# Altium schematic symbol library Schlib_For_High_Voltage_Sensor.SchLib: 142 symbols (part 2 of 3)
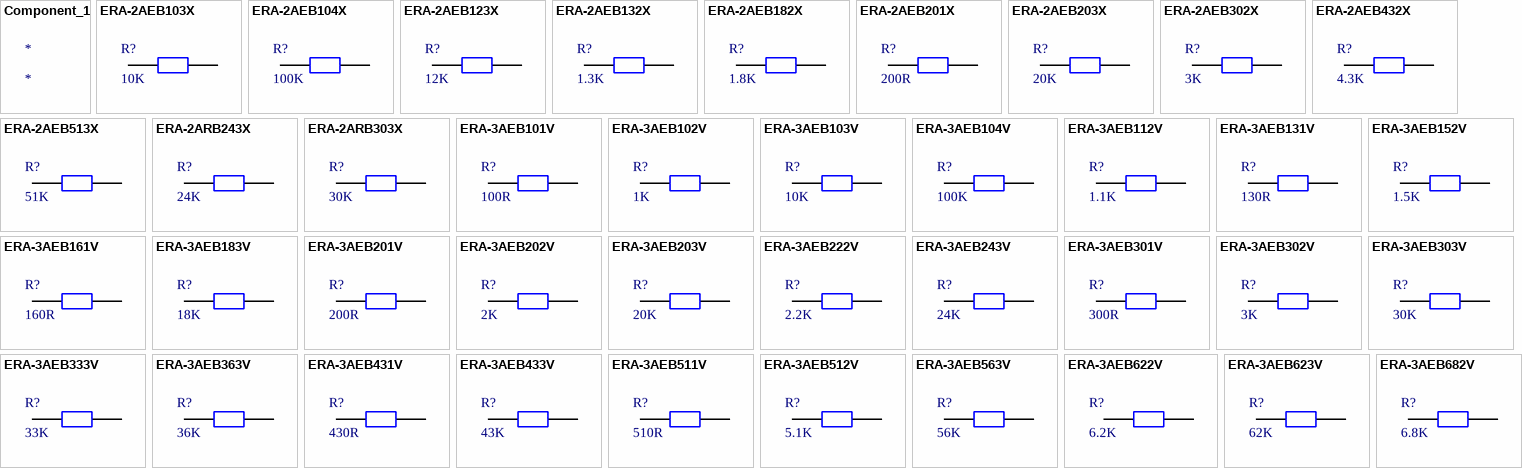
[diagram p4: symbols Component_1 to ERA-3AEB682V]

## ERA-3AEB101V
designator R?, comment 100R
RES SMD 100 OHM 0.1% 1/10W 0603; Manufacturer: Panasonic Electronic Components; Manufacturer Part Number: ERA-3AEB101V; Resistance (Ohms): 100; Power (Watts): 0.1W, 1/10W; Temperature Coefficient: ±25ppm/°C; Supplier 1: Digi-Key; RoHS: RoHS Compliant; Category: Resistors; Stock 1: 192441; Pricing 1: 1=0.54, 10=0.464, 100=0.1813, 1000=0.07591, 2500=0.06959 (CAD); Packaging: Cut Tape (CT); Part Status: Active; Tolerance: ±0.1%; Composition: Thin Film; Features: Automotive AEC-Q200; Operating Temperature: -55°C ~ 155°C; Package / Case: 0603 (1608 Metric); Supplier Device Package: 0603; Size / Dimension: 0.063" L x 0.031" W (1.60mm x 0.80mm); Height - Seated (Max): 0.022" (0.55mm); Failure Rate: -; ComponentLink1URL: https://industrial.panasonic.com/cdbs/www-data/pdf/RDM0000/AOA0000C237.pdf; ComponentLink1Description: https://industrial.panasonic.com/cdbs/www-data/pdf/RDM0000/AOA0000C237.pdf; Supplier Part Number 1: P100DBCT-ND
footprint RESC0603 (Chip Resistor 0603, 2-Leads, Body 1.60x0.82mm, IPC High Density)
pins: 1, 2

## ERA-3AEB102V
designator R?, comment 1K
RES SMD 1K OHM 0.1% 1/10W 0603; Manufacturer: Panasonic Electronic Components; Manufacturer Part Number: ERA-3AEB102V; Power (Watts): 0.1W, 1/10W; Temperature Coefficient: ±25ppm/°C; Supplier 1: Digi-Key; RoHS: RoHS Compliant; Category: Resistors; Stock 1: 102851; Pricing 1: 1=0.54, 10=0.464, 100=0.1813, 1000=0.07591, 2500=0.06959 (CAD); Packaging: Cut Tape (CT); Part Status: Active; Resistance (Ohms): 1k; Tolerance: ±0.1%; Composition: Thin Film; Features: Automotive AEC-Q200; Operating Temperature: -55°C ~ 155°C; Package / Case: 0603 (1608 Metric); Supplier Device Package: 0603; Size / Dimension: 0.063" L x 0.031" W (1.60mm x 0.80mm); Height - Seated (Max): 0.022" (0.55mm); Failure Rate: -; ComponentLink1URL: https://industrial.panasonic.com/cdbs/www-data/pdf/RDM0000/AOA0000C237.pdf; ComponentLink1Description: https://industrial.panasonic.com/cdbs/www-data/pdf/RDM0000/AOA0000C237.pdf; Supplier Part Number 1: P1.0KDBCT-ND
footprint RESC0603 (Chip Resistor 0603, 2-Leads, Body 1.60x0.82mm, IPC High Density)
pins: 1, 2

## ERA-3AEB103V
designator R?, comment 10K
RES SMD 10K OHM 0.1% 1/10W 0603; Manufacturer: Panasonic Electronic Components; Manufacturer Part Number: ERA-3AEB103V; Power (Watts): 0.1W, 1/10W; Temperature Coefficient: ±25ppm/°C; Supplier 1: Digi-Key; RoHS: RoHS Compliant; Category: Resistors; Stock 1: 1334717; Pricing 1: 1=0.53, 10=0.45, 100=0.1759, 1000=0.07362, 2500=0.06749 (CAD); Packaging: Cut Tape (CT); Part Status: Active; Resistance (Ohms): 10k; Tolerance: ±0.1%; Composition: Thin Film; Features: Automotive AEC-Q200; Operating Temperature: -55°C ~ 155°C; Package / Case: 0603 (1608 Metric); Supplier Device Package: 0603; Size / Dimension: 0.063" L x 0.031" W (1.60mm x 0.80mm); Height - Seated (Max): 0.022" (0.55mm); Failure Rate: -; ComponentLink1URL: https://industrial.panasonic.com/cdbs/www-data/pdf/RDM0000/AOA0000C237.pdf; ComponentLink1Description: https://industrial.panasonic.com/cdbs/www-data/pdf/RDM0000/AOA0000C237.pdf; Supplier Part Number 1: P10KDBCT-ND
footprint RESC0603 (Chip Resistor 0603, 2-Leads, Body 1.60x0.82mm, IPC High Density)
pins: 1, 2

## ERA-3AEB104V
designator R?, comment 100K
RES SMD 100K OHM 0.1% 1/10W 0603; Manufacturer: Panasonic Electronic Components; Manufacturer Part Number: ERA-3AEB104V; Power (Watts): 0.1W, 1/10W; Temperature Coefficient: ±25ppm/°C; Supplier 1: Digi-Key; RoHS: RoHS Compliant; Category: Resistors; Stock 1: 487813; Pricing 1: 1=0.55, 10=0.47, 100=0.1835, 1000=0.07679, 2500=0.0704 (CAD); Packaging: Cut Tape (CT); Part Status: Active; Resistance (Ohms): 100k; Tolerance: ±0.1%; Composition: Thin Film; Features: Automotive AEC-Q200; Operating Temperature: -55°C ~ 155°C; Package / Case: 0603 (1608 Metric); Supplier Device Package: 0603; Size / Dimension: 0.063" L x 0.031" W (1.60mm x 0.80mm); Height - Seated (Max): 0.022" (0.55mm); Failure Rate: -; ComponentLink1URL: https://industrial.panasonic.com/cdbs/www-data/pdf/RDM0000/AOA0000C237.pdf; ComponentLink1Description: https://industrial.panasonic.com/cdbs/www-data/pdf/RDM0000/AOA0000C237.pdf; Supplier Part Number 1: P100KDBCT-ND
footprint RESC0603 (Chip Resistor 0603, 2-Leads, Body 1.60x0.82mm, IPC High Density)
pins: 1, 2

## ERA-3AEB112V
designator R?, comment 1.1K
RES SMD 1.1K OHM 0.1% 1/10W 0603; Manufacturer: Panasonic Electronic Components; Manufacturer Part Number: ERA-3AEB112V; Power (Watts): 0.1W, 1/10W; Temperature Coefficient: ±25ppm/°C; Supplier 1: Digi-Key; RoHS: RoHS Compliant; Category: Resistors; Stock 1: 62650; Pricing 1: 1=0.54, 10=0.464, 100=0.1813, 1000=0.07591, 2500=0.06959 (CAD); Packaging: Cut Tape (CT); Part Status: Active; Resistance (Ohms): 1.1k; Tolerance: ±0.1%; Composition: Thin Film; Features: Automotive AEC-Q200; Operating Temperature: -55°C ~ 155°C; Package / Case: 0603 (1608 Metric); Supplier Device Package: 0603; Size / Dimension: 0.063" L x 0.031" W (1.60mm x 0.80mm); Height - Seated (Max): 0.022" (0.55mm); Failure Rate: -; ComponentLink1URL: https://industrial.panasonic.com/cdbs/www-data/pdf/RDM0000/AOA0000C237.pdf; ComponentLink1Description: https://industrial.panasonic.com/cdbs/www-data/pdf/RDM0000/AOA0000C237.pdf; Supplier Part Number 1: P1.1KDBCT-ND
footprint RESC0603 (Chip Resistor 0603, 2-Leads, Body 1.60x0.82mm, IPC High Density)
pins: 1, 2

## ERA-3AEB131V
designator R?, comment 130R
RES SMD 130 OHM 0.1% 1/10W 0603; Manufacturer: Panasonic Electronic Components; Manufacturer Part Number: ERA-3AEB131V; Resistance (Ohms): 130; Power (Watts): 0.1W, 1/10W; Temperature Coefficient: ±25ppm/°C; Supplier 1: Digi-Key; RoHS: RoHS Compliant; Category: Resistors; Stock 1: 4639; Pricing 1: 1=0.53, 10=0.45, 100=0.1759, 1000=0.07362, 2500=0.06749 (CAD); Packaging: Cut Tape (CT); Part Status: Active; Tolerance: ±0.1%; Composition: Thin Film; Features: Automotive AEC-Q200; Operating Temperature: -55°C ~ 155°C; Package / Case: 0603 (1608 Metric); Supplier Device Package: 0603; Size / Dimension: 0.063" L x 0.031" W (1.60mm x 0.80mm); Height - Seated (Max): 0.022" (0.55mm); Failure Rate: -; ComponentLink1URL: https://industrial.panasonic.com/cdbs/www-data/pdf/RDM0000/AOA0000C237.pdf; ComponentLink1Description: https://industrial.panasonic.com/cdbs/www-data/pdf/RDM0000/AOA0000C237.pdf; Supplier Part Number 1: P130DBCT-ND
footprint RESC0603 (Chip Resistor 0603, 2-Leads, Body 1.60x0.82mm, IPC High Density)
pins: 1, 2

## ERA-3AEB152V
designator R?, comment 1.5K
RESISTOR, 0603, 1K5, FULL REEL; Manufacturer: Panasonic ECG; Manufacturer Part Number: ERA-3AEB152V; Resistance: 1.5kR; Power Rating: 100mW; Tolerance: 0.1%; Voltage Rating: 75V; Temperature Coefficient: 25ppm/°C; Stock 1: 93998; Pricing 1: 1=0.35, 10=0.3, 100=0.1172, 1000=0.04906, 2500=0.04498 (USD); Mount: Surface Mount; Case/Package: 0603; Number of Pins: 2; Case Code (Metric): 1608; Case Code (Imperial): 0603; Contact Plating: Tin; Min Operating Temperature: -55°C; Max Operating Temperature: 155°C; Packaging: Tape and Reel; Package Quantity: 1; Composition: Thin Film; Number of Terminations: 2; Termination: SMD/SMT; Military Standard: Not; Max Power Dissipation: 100mW; Voltage Rating (DC): 75V; Length: 1.6mm; Height: 0.45mm; Width: 0.8mm; Depth: 0.8mm; Radiation Hardening: No; REACH SVHC: No SVHC; Lead Free: Lead Free; ComponentLink1URL: https://datasheet.ciiva.com/11811/0900766b80beefcc-11811712.pdf; ComponentLink1Description: https://datasheet.ciiva.com/11811/0900766b80beefcc-11811712.pdf; ComponentLink2URL: https://datasheet.ciiva.com/9117/aoa0000ce26-9117365.pdf; ComponentLink2Description: https://datasheet.ciiva.com/9117/aoa0000ce26-9117365.pdf; ComponentLink3URL: https://datasheet.ciiva.com/16760/70068849-16760629.pdf; ComponentLink3Description: https://datasheet.ciiva.com/16760/70068849-16760629.pdf; ComponentLink4URL: https://datasheet.ciiva.com/30146/54aoa0000ce26-30146117.pdf; ComponentLink4Description: https://datasheet.ciiva.com/30146/54aoa0000ce26-30146117.pdf; ComponentLink5URL: https://datasheet.ciiva.com/46422/485442-46422565.pdf; ComponentLink5Description: https://datasheet.ciiva.com/46422/485442-46422565.pdf; ComponentLink6URL: https://datasheet.ciiva.com/5734/485442-5734538.pdf; ComponentLink6Description: https://datasheet.ciiva.com/5734/485442-5734538.pdf; ComponentLink7URL: https://datasheet.ciiva.com/28513/485442-28513834.pdf; ComponentLink7Description: https://datasheet.ciiva.com/28513/485442-28513834.pdf; ComponentLink8URL: https://datasheet.ciiva.com/5734/485442-5734539.pdf; ComponentLink8Description: https://datasheet.ciiva.com/5734/485442-5734539.pdf; ComponentLink9URL: https://datasheet.ciiva.com/17214/aoa0000ce26-17214731.pdf; ComponentLink9Description: https://datasheet.ciiva.com/17214/aoa0000ce26-17214731.pdf; ComponentLink10URL: https://datasheet.ciiva.com/48530/era-eng-tds-48530507.pdf; ComponentLink10Description: https://datasheet.ciiva.com/48530/era-eng-tds-48530507.pdf; ComponentLink11URL: https://datasheet.ciiva.com/7830/485442-7830591.pdf; ComponentLink11Description: https://datasheet.ciiva.com/7830/485442-7830591.pdf; ComponentLink12URL: https://datasheet.ciiva.com/29183/450830-da-01-en-widerstand-0603-era-29183764.pdf; ComponentLink12Description: https://datasheet.ciiva.com/29183/450830-da-01-en-widerstand-0603-era-29183764.pdf; Supplier 1: Digi-Key; Supplier Part Number 1: P1.5KDBCT-ND
footprint RESC0603 (Chip Resistor 0603, 2-Leads, Body 1.60x0.82mm, IPC High Density)
pins: 1, 2

## ERA-3AEB161V
designator R?, comment 160R
RES SMD 160 OHM 0.1% 1/10W 0603; Manufacturer: Panasonic Electronic Components; Manufacturer Part Number: ERA-3AEB161V; Resistance (Ohms): 160; Power (Watts): 0.1W, 1/10W; Temperature Coefficient: ±25ppm/°C; Supplier 1: Digi-Key; RoHS: RoHS Compliant; Category: Resistors; Stock 1: 9377; Pricing 1: 1=0.53, 10=0.45, 100=0.1759, 1000=0.07362, 2500=0.06749 (CAD); Packaging: Cut Tape (CT); Part Status: Active; Tolerance: ±0.1%; Composition: Thin Film; Features: Automotive AEC-Q200; Operating Temperature: -55°C ~ 155°C; Package / Case: 0603 (1608 Metric); Supplier Device Package: 0603; Size / Dimension: 0.063" L x 0.031" W (1.60mm x 0.80mm); Height - Seated (Max): 0.022" (0.55mm); Failure Rate: -; ComponentLink1URL: https://industrial.panasonic.com/cdbs/www-data/pdf/RDM0000/AOA0000C237.pdf; ComponentLink1Description: https://industrial.panasonic.com/cdbs/www-data/pdf/RDM0000/AOA0000C237.pdf; Supplier Part Number 1: P160DBCT-ND
footprint RESC0603 (Chip Resistor 0603, 2-Leads, Body 1.60x0.82mm, IPC High Density)
pins: 1, 2

## ERA-3AEB183V
designator R?, comment 18K
RES SMD 18K OHM 0.1% 1/10W 0603; Manufacturer: Panasonic Electronic Components; Manufacturer Part Number: ERA-3AEB183V; Power (Watts): 0.1W, 1/10W; Temperature Coefficient: ±25ppm/°C; Supplier 1: Digi-Key; RoHS: RoHS Compliant; Category: Resistors; Stock 1: 47501; Pricing 1: 1=0.54, 10=0.464, 100=0.1813, 1000=0.07591, 2500=0.06959 (CAD); Packaging: Cut Tape (CT); Part Status: Active; Resistance (Ohms): 18k; Tolerance: ±0.1%; Composition: Thin Film; Features: Automotive AEC-Q200; Operating Temperature: -55°C ~ 155°C; Package / Case: 0603 (1608 Metric); Supplier Device Package: 0603; Size / Dimension: 0.063" L x 0.031" W (1.60mm x 0.80mm); Height - Seated (Max): 0.022" (0.55mm); Failure Rate: -; ComponentLink1URL: https://industrial.panasonic.com/cdbs/www-data/pdf/RDM0000/AOA0000C237.pdf; ComponentLink1Description: https://industrial.panasonic.com/cdbs/www-data/pdf/RDM0000/AOA0000C237.pdf; Supplier Part Number 1: P18KDBCT-ND
footprint RESC0603 (Chip Resistor 0603, 2-Leads, Body 1.60x0.82mm, IPC High Density)
pins: 1, 2

## ERA-3AEB201V
designator R?, comment 200R
RES SMD 200 OHM 0.1% 1/10W 0603; Manufacturer: Panasonic Electronic Components; Manufacturer Part Number: ERA-3AEB201V; Resistance (Ohms): 200; Power (Watts): 0.1W, 1/10W; Temperature Coefficient: ±25ppm/°C; Supplier 1: Digi-Key; RoHS: RoHS Compliant; Category: Resistors; Stock 1: 23588; Pricing 1: 1=0.54, 10=0.464, 100=0.1813, 1000=0.07591, 2500=0.06959 (CAD); Packaging: Cut Tape (CT); Part Status: Active; Tolerance: ±0.1%; Composition: Thin Film; Features: Automotive AEC-Q200; Operating Temperature: -55°C ~ 155°C; Package / Case: 0603 (1608 Metric); Supplier Device Package: 0603; Size / Dimension: 0.063" L x 0.031" W (1.60mm x 0.80mm); Height - Seated (Max): 0.022" (0.55mm); Failure Rate: -; ComponentLink1URL: https://industrial.panasonic.com/cdbs/www-data/pdf/RDM0000/AOA0000C237.pdf; ComponentLink1Description: https://industrial.panasonic.com/cdbs/www-data/pdf/RDM0000/AOA0000C237.pdf; Supplier Part Number 1: P200DBCT-ND
footprint RESC0603 (Chip Resistor 0603, 2-Leads, Body 1.60x0.82mm, IPC High Density)
pins: 1, 2

## ERA-3AEB202V
designator R?, comment 2K
RES SMD 2K OHM 0.1% 1/10W 0603; Manufacturer: Panasonic Electronic Components; Manufacturer Part Number: ERA-3AEB202V; Power (Watts): 0.1W, 1/10W; Temperature Coefficient: ±25ppm/°C; Supplier 1: Digi-Key; RoHS: RoHS Compliant; Category: Resistors; Stock 1: 235861; Pricing 1: 1=0.64, 10=0.47, 100=0.1835, 1000=0.07679, 2500=0.0704 (CAD); Packaging: Cut Tape (CT); Part Status: Active; Resistance (Ohms): 2k; Tolerance: ±0.1%; Composition: Thin Film; Features: Automotive AEC-Q200; Operating Temperature: -55°C ~ 155°C; Package / Case: 0603 (1608 Metric); Supplier Device Package: 0603; Size / Dimension: 0.063" L x 0.031" W (1.60mm x 0.80mm); Height - Seated (Max): 0.022" (0.55mm); Failure Rate: -; ComponentLink1URL: https://industrial.panasonic.com/cdbs/www-data/pdf/RDM0000/AOA0000C237.pdf; ComponentLink1Description: https://industrial.panasonic.com/cdbs/www-data/pdf/RDM0000/AOA0000C237.pdf; Supplier Part Number 1: P2.0KDBCT-ND
footprint RESC0603 (Chip Resistor 0603, 2-Leads, Body 1.60x0.82mm, IPC High Density)
pins: 1, 2

## ERA-3AEB203V
designator R?, comment 20K
RES SMD 20K OHM 0.1% 1/10W 0603; Manufacturer: Panasonic Electronic Components; Manufacturer Part Number: ERA-3AEB203V; Power (Watts): 0.1W, 1/10W; Temperature Coefficient: ±25ppm/°C; Supplier 1: Digi-Key; RoHS: RoHS Compliant; Category: Resistors; Stock 1: 116343; Pricing 1: 1=0.54, 10=0.464, 100=0.1813, 1000=0.07591, 2500=0.06959 (CAD); Packaging: Cut Tape (CT); Part Status: Active; Resistance (Ohms): 20k; Tolerance: ±0.1%; Composition: Thin Film; Features: Automotive AEC-Q200; Operating Temperature: -55°C ~ 155°C; Package / Case: 0603 (1608 Metric); Supplier Device Package: 0603; Size / Dimension: 0.063" L x 0.031" W (1.60mm x 0.80mm); Height - Seated (Max): 0.022" (0.55mm); Failure Rate: -; ComponentLink1URL: https://industrial.panasonic.com/cdbs/www-data/pdf/RDM0000/AOA0000C237.pdf; ComponentLink1Description: https://industrial.panasonic.com/cdbs/www-data/pdf/RDM0000/AOA0000C237.pdf; Supplier Part Number 1: P20KDBCT-ND
footprint RESC0603 (Chip Resistor 0603, 2-Leads, Body 1.60x0.82mm, IPC High Density)
pins: 1, 2

## ERA-3AEB222V
designator R?, comment 2.2K
RES SMD 2.2K OHM 0.1% 1/10W 0603; Manufacturer: Panasonic Electronic Components; Manufacturer Part Number: ERA-3AEB222V; Power (Watts): 0.1W, 1/10W; Temperature Coefficient: ±25ppm/°C; Supplier 1: Digi-Key; RoHS: RoHS Compliant; Category: Resistors; Stock 1: 3493; Pricing 1: 1=0.53, 10=0.45, 100=0.1759, 1000=0.07362, 2500=0.06749 (CAD); Packaging: Cut Tape (CT); Part Status: Active; Resistance (Ohms): 2.2k; Tolerance: ±0.1%; Composition: Thin Film; Features: Automotive AEC-Q200; Operating Temperature: -55°C ~ 155°C; Package / Case: 0603 (1608 Metric); Supplier Device Package: 0603; Size / Dimension: 0.063" L x 0.031" W (1.60mm x 0.80mm); Height - Seated (Max): 0.022" (0.55mm); Failure Rate: -; ComponentLink1URL: https://industrial.panasonic.com/cdbs/www-data/pdf/RDM0000/AOA0000C237.pdf; ComponentLink1Description: https://industrial.panasonic.com/cdbs/www-data/pdf/RDM0000/AOA0000C237.pdf; Supplier Part Number 1: P2.2KDBCT-ND
footprint RESC0603 (Chip Resistor 0603, 2-Leads, Body 1.60x0.82mm, IPC High Density)
pins: 1, 2

## ERA-3AEB243V
designator R?, comment 24K
RES SMD 24K OHM 0.1% 1/10W 0603; Manufacturer: Panasonic Electronic Components; Manufacturer Part Number: ERA-3AEB243V; Power (Watts): 0.1W, 1/10W; Temperature Coefficient: ±25ppm/°C; Supplier 1: Digi-Key; RoHS: RoHS Compliant; Category: Resistors; Stock 1: 88060; Pricing 1: 1=0.54, 10=0.464, 100=0.1813, 1000=0.07591, 2500=0.06959 (CAD); Packaging: Cut Tape (CT); Part Status: Active; Resistance (Ohms): 24k; Tolerance: ±0.1%; Composition: Thin Film; Features: Automotive AEC-Q200; Operating Temperature: -55°C ~ 155°C; Package / Case: 0603 (1608 Metric); Supplier Device Package: 0603; Size / Dimension: 0.063" L x 0.031" W (1.60mm x 0.80mm); Height - Seated (Max): 0.022" (0.55mm); Failure Rate: -; ComponentLink1URL: https://industrial.panasonic.com/cdbs/www-data/pdf/RDM0000/AOA0000C237.pdf; ComponentLink1Description: https://industrial.panasonic.com/cdbs/www-data/pdf/RDM0000/AOA0000C237.pdf; Supplier Part Number 1: P24KDBCT-ND
footprint RESC0603 (Chip Resistor 0603, 2-Leads, Body 1.60x0.82mm, IPC High Density)
pins: 1, 2

## ERA-3AEB301V
designator R?, comment 300R
RES SMD 300 OHM 0.1% 1/10W 0603; Manufacturer: Panasonic Electronic Components; Manufacturer Part Number: ERA-3AEB301V; Power (Watts): 0.1W, 1/10W; Temperature Coefficient: ±25ppm/°C; Supplier 1: Digi-Key; RoHS: RoHS Compliant; Category: Resistors; Stock 1: 32271; Pricing 1: 1=0.52, 10=0.443, 100=0.1731, 1000=0.07247, 2500=0.06644 (CAD); Packaging: Cut Tape (CT); Part Status: Active; Tolerance: ±0.1%; Composition: Thin Film; Features: Automotive AEC-Q200; Operating Temperature: -55°C ~ 155°C; Package / Case: 0603 (1608 Metric); Supplier Device Package: 0603; Size / Dimension: 0.063" L x 0.032" W (1.60mm x 0.80mm); Height - Seated (Max): 0.022" (0.55mm); Failure Rate: -; ComponentLink1URL: https://industrial.panasonic.com/cdbs/www-data/pdf/RDM0000/AOA0000C307.pdf; ComponentLink1Description: https://industrial.panasonic.com/cdbs/www-data/pdf/RDM0000/AOA0000C307.pdf; Supplier Part Number 1: P300DBCT-ND
footprint RESC0603 (Chip Resistor 0603, 2-Leads, Body 1.60x0.82mm, IPC High Density)
pins: 1, 2

## ERA-3AEB302V
designator R?, comment 3K
RES SMD 3K OHM 0.1% 1/10W 0603; Manufacturer: Panasonic Electronic Components; Manufacturer Part Number: ERA-3AEB302V; Power (Watts): 0.1W, 1/10W; Temperature Coefficient: ±25ppm/°C; Supplier 1: Digi-Key; RoHS: RoHS Compliant; Category: Resistors; Stock 1: 26061; Pricing 1: 1=0.53, 10=0.45, 100=0.1759, 1000=0.07362, 2500=0.06749 (CAD); Packaging: Cut Tape (CT); Part Status: Active; Resistance (Ohms): 3k; Tolerance: ±0.1%; Composition: Thin Film; Features: Automotive AEC-Q200; Operating Temperature: -55°C ~ 155°C; Package / Case: 0603 (1608 Metric); Supplier Device Package: 0603; Size / Dimension: 0.063" L x 0.031" W (1.60mm x 0.80mm); Height - Seated (Max): 0.022" (0.55mm); Failure Rate: -; ComponentLink1URL: https://industrial.panasonic.com/cdbs/www-data/pdf/RDM0000/AOA0000C237.pdf; ComponentLink1Description: https://industrial.panasonic.com/cdbs/www-data/pdf/RDM0000/AOA0000C237.pdf; Supplier Part Number 1: P3.0KDBCT-ND
footprint RESC0603 (Chip Resistor 0603, 2-Leads, Body 1.60x0.82mm, IPC High Density)
pins: 1, 2

## ERA-3AEB303V
designator R?, comment 30K
RES SMD 30K OHM 0.1% 1/10W 0603; Manufacturer: Panasonic Electronic Components; Manufacturer Part Number: ERA-3AEB303V; Power (Watts): 0.1W, 1/10W; Temperature Coefficient: ±25ppm/°C; Supplier 1: Digi-Key; RoHS: RoHS Compliant; Category: Resistors; Stock 1: 161107; Pricing 1: 1=0.55, 10=0.47, 100=0.1835, 1000=0.07679, 2500=0.0704 (CAD); Packaging: Cut Tape (CT); Part Status: Active; Resistance (Ohms): 30k; Tolerance: ±0.1%; Composition: Thin Film; Features: Automotive AEC-Q200; Operating Temperature: -55°C ~ 155°C; Package / Case: 0603 (1608 Metric); Supplier Device Package: 0603; Size / Dimension: 0.063" L x 0.031" W (1.60mm x 0.80mm); Height - Seated (Max): 0.022" (0.55mm); Failure Rate: -; ComponentLink1URL: https://industrial.panasonic.com/cdbs/www-data/pdf/RDM0000/AOA0000C237.pdf; ComponentLink1Description: https://industrial.panasonic.com/cdbs/www-data/pdf/RDM0000/AOA0000C237.pdf; Supplier Part Number 1: P30KDBCT-ND
footprint RESC0603 (Chip Resistor 0603, 2-Leads, Body 1.60x0.82mm, IPC High Density)
pins: 1, 2

## ERA-3AEB333V
designator R?, comment 33K
RES SMD 33K OHM 0.1% 1/10W 0603; Manufacturer: Panasonic Electronic Components; Manufacturer Part Number: ERA-3AEB333V; Power (Watts): 0.1W, 1/10W; Temperature Coefficient: ±25ppm/°C; Supplier 1: Digi-Key; RoHS: RoHS Compliant; Category: Resistors; Stock 1: 111349; Pricing 1: 1=0.55, 10=0.47, 100=0.1835, 1000=0.07679, 2500=0.0704 (CAD); Packaging: Cut Tape (CT); Part Status: Active; Resistance (Ohms): 33k; Tolerance: ±0.1%; Composition: Thin Film; Features: Automotive AEC-Q200; Operating Temperature: -55°C ~ 155°C; Package / Case: 0603 (1608 Metric); Supplier Device Package: 0603; Size / Dimension: 0.063" L x 0.031" W (1.60mm x 0.80mm); Height - Seated (Max): 0.022" (0.55mm); Failure Rate: -; ComponentLink1URL: https://industrial.panasonic.com/cdbs/www-data/pdf/RDM0000/AOA0000C237.pdf; ComponentLink1Description: https://industrial.panasonic.com/cdbs/www-data/pdf/RDM0000/AOA0000C237.pdf; Supplier Part Number 1: P33KDBCT-ND
footprint RESC0603 (Chip Resistor 0603, 2-Leads, Body 1.60x0.82mm, IPC High Density)
pins: 1, 2

## ERA-3AEB363V
designator R?, comment 36K
RES SMD 36K OHM 0.1% 1/10W 0603; Manufacturer: Panasonic Electronic Components; Manufacturer Part Number: ERA-3AEB363V; Power (Watts): 0.1W, 1/10W; Temperature Coefficient: ±25ppm/°C; Supplier 1: Digi-Key; RoHS: RoHS Compliant; Category: Resistors; Stock 1: 58485; Pricing 1: 1=0.54, 10=0.464, 100=0.1813, 1000=0.07591, 2500=0.06959 (CAD); Packaging: Cut Tape (CT); Part Status: Active; Resistance (Ohms): 36k; Tolerance: ±0.1%; Composition: Thin Film; Features: Automotive AEC-Q200; Operating Temperature: -55°C ~ 155°C; Package / Case: 0603 (1608 Metric); Supplier Device Package: 0603; Size / Dimension: 0.063" L x 0.031" W (1.60mm x 0.80mm); Height - Seated (Max): 0.022" (0.55mm); Failure Rate: -; ComponentLink1URL: https://industrial.panasonic.com/cdbs/www-data/pdf/RDM0000/AOA0000C237.pdf; ComponentLink1Description: https://industrial.panasonic.com/cdbs/www-data/pdf/RDM0000/AOA0000C237.pdf; Supplier Part Number 1: P36KDBCT-ND
footprint RESC0603 (Chip Resistor 0603, 2-Leads, Body 1.60x0.82mm, IPC High Density)
pins: 1, 2

## ERA-3AEB431V
designator R?, comment 430R
RES SMD 430 OHM 0.1% 1/10W 0603; Manufacturer: Panasonic Electronic Components; Manufacturer Part Number: ERA-3AEB431V; Resistance (Ohms): 430; Power (Watts): 0.1W, 1/10W; Temperature Coefficient: ±25ppm/°C; Supplier 1: Digi-Key; RoHS: RoHS Compliant; Category: Resistors; Stock 1: 9747; Pricing 1: 1=0.53, 10=0.45, 100=0.1759, 1000=0.07362, 2500=0.06749 (CAD); Packaging: Cut Tape (CT); Part Status: Active; Tolerance: ±0.1%; Composition: Thin Film; Features: Automotive AEC-Q200; Operating Temperature: -55°C ~ 155°C; Package / Case: 0603 (1608 Metric); Supplier Device Package: 0603; Size / Dimension: 0.063" L x 0.031" W (1.60mm x 0.80mm); Height - Seated (Max): 0.022" (0.55mm); Failure Rate: -; ComponentLink1URL: https://industrial.panasonic.com/cdbs/www-data/pdf/RDM0000/AOA0000C237.pdf; ComponentLink1Description: https://industrial.panasonic.com/cdbs/www-data/pdf/RDM0000/AOA0000C237.pdf; Supplier Part Number 1: P430DBCT-ND
footprint RESC0603 (Chip Resistor 0603, 2-Leads, Body 1.60x0.82mm, IPC High Density)
pins: 1, 2

## ERA-3AEB433V
designator R?, comment 43K
RES SMD 43K OHM 0.1% 1/10W 0603; Manufacturer: Panasonic Electronic Components; Manufacturer Part Number: ERA-3AEB433V; Power (Watts): 0.1W, 1/10W; Temperature Coefficient: ±25ppm/°C; Supplier 1: Digi-Key; RoHS: RoHS Compliant; Category: Resistors; Stock 1: 33694; Pricing 1: 1=0.64, 10=0.47, 100=0.1835, 1000=0.07679, 2500=0.0704 (CAD); Packaging: Cut Tape (CT); Part Status: Active; Resistance (Ohms): 43k; Tolerance: ±0.1%; Composition: Thin Film; Features: Automotive AEC-Q200; Operating Temperature: -55°C ~ 155°C; Package / Case: 0603 (1608 Metric); Supplier Device Package: 0603; Size / Dimension: 0.063" L x 0.031" W (1.60mm x 0.80mm); Height - Seated (Max): 0.022" (0.55mm); Failure Rate: -; ComponentLink1URL: https://industrial.panasonic.com/cdbs/www-data/pdf/RDM0000/AOA0000C237.pdf; ComponentLink1Description: https://industrial.panasonic.com/cdbs/www-data/pdf/RDM0000/AOA0000C237.pdf; Supplier Part Number 1: P43KDBCT-ND
footprint RESC0603 (Chip Resistor 0603, 2-Leads, Body 1.60x0.82mm, IPC High Density)
pins: 1, 2

## ERA-3AEB511V
designator R?, comment 510R
RES SMD 510 OHM 0.1% 1/10W 0603; Manufacturer: Panasonic Electronic Components; Manufacturer Part Number: ERA-3AEB511V; Resistance (Ohms): 510; Power (Watts): 0.1W, 1/10W; Temperature Coefficient: ±25ppm/°C; Supplier 1: Digi-Key; RoHS: RoHS Compliant; Category: Resistors; Stock 1: 21170; Pricing 1: 1=0.64, 10=0.47, 100=0.1835, 1000=0.07679, 2500=0.0704 (CAD); Packaging: Cut Tape (CT); Part Status: Active; Tolerance: ±0.1%; Composition: Thin Film; Features: Automotive AEC-Q200; Operating Temperature: -55°C ~ 155°C; Package / Case: 0603 (1608 Metric); Supplier Device Package: 0603; Size / Dimension: 0.063" L x 0.031" W (1.60mm x 0.80mm); Height - Seated (Max): 0.022" (0.55mm); Failure Rate: -; ComponentLink1URL: https://industrial.panasonic.com/cdbs/www-data/pdf/RDM0000/AOA0000C237.pdf; ComponentLink1Description: https://industrial.panasonic.com/cdbs/www-data/pdf/RDM0000/AOA0000C237.pdf; Supplier Part Number 1: P510DBCT-ND
footprint RESC0603 (Chip Resistor 0603, 2-Leads, Body 1.60x0.82mm, IPC High Density)
pins: 1, 2

## ERA-3AEB512V
designator R?, comment 5.1K
RES SMD 5.1K OHM 0.1% 1/10W 0603; Manufacturer: Panasonic Electronic Components; Manufacturer Part Number: ERA-3AEB512V; Power (Watts): 0.1W, 1/10W; Temperature Coefficient: ±25ppm/°C; Supplier 1: Digi-Key; RoHS: RoHS Compliant; Category: Resistors; Stock 1: 128401; Pricing 1: 1=0.53, 10=0.45, 100=0.1759, 1000=0.07362, 2500=0.06749 (CAD); Packaging: Cut Tape (CT); Part Status: Active; Resistance (Ohms): 5.1k; Tolerance: ±0.1%; Composition: Thin Film; Features: Automotive AEC-Q200; Operating Temperature: -55°C ~ 155°C; Package / Case: 0603 (1608 Metric); Supplier Device Package: 0603; Size / Dimension: 0.063" L x 0.031" W (1.60mm x 0.80mm); Height - Seated (Max): 0.022" (0.55mm); Failure Rate: -; ComponentLink1URL: https://industrial.panasonic.com/cdbs/www-data/pdf/RDM0000/AOA0000C237.pdf; ComponentLink1Description: https://industrial.panasonic.com/cdbs/www-data/pdf/RDM0000/AOA0000C237.pdf; Supplier Part Number 1: P5.1KDBCT-ND
footprint RESC0603 (Chip Resistor 0603, 2-Leads, Body 1.60x0.82mm, IPC High Density)
pins: 1, 2

## ERA-3AEB563V
designator R?, comment 56K
RES SMD 56K OHM 0.1% 1/10W 0603; Manufacturer: Panasonic Electronic Components; Manufacturer Part Number: ERA-3AEB563V; Power (Watts): 0.1W, 1/10W; Temperature Coefficient: ±25ppm/°C; Supplier 1: Digi-Key; RoHS: RoHS Compliant; Category: Resistors; Stock 1: 23439; Pricing 1: 1=0.54, 10=0.464, 100=0.1813, 1000=0.07591, 2500=0.06959 (CAD); Packaging: Cut Tape (CT); Part Status: Active; Resistance (Ohms): 56k; Tolerance: ±0.1%; Composition: Thin Film; Features: Automotive AEC-Q200; Operating Temperature: -55°C ~ 155°C; Package / Case: 0603 (1608 Metric); Supplier Device Package: 0603; Size / Dimension: 0.063" L x 0.031" W (1.60mm x 0.80mm); Height - Seated (Max): 0.022" (0.55mm); Failure Rate: -; ComponentLink1URL: https://industrial.panasonic.com/cdbs/www-data/pdf/RDM0000/AOA0000C237.pdf; ComponentLink1Description: https://industrial.panasonic.com/cdbs/www-data/pdf/RDM0000/AOA0000C237.pdf; Supplier Part Number 1: P56KDBCT-ND
footprint RESC0603 (Chip Resistor 0603, 2-Leads, Body 1.60x0.82mm, IPC High Density)
pins: 1, 2

## ERA-3AEB622V
designator R?, comment 6.2K
Res Thin Film 0603 6.2K Ohm 0.1% 0.1W(1/10W) ±25ppm/C Molded SMD Automotive Punched T/R; Manufacturer 1: Panasonic; Manufacturer Part Number 1: ERA-3AEB622V; Resistance: 6.2kR; Power Rating: 100mW; Voltage Rating: 75V; Temperature Coefficient: 25ppm/°C; Supplier 1: Digi-Key; Supplier Part Number 1: P6.2KDBCT-ND; Description 1: Res Thin Film 0603 6.2K Ohm 0.1% 0.1W(1/10W) ±25ppm/C Molded SMD Automotive Punched T/R; Stock 1: 75807; Pricing 1: 1=0.35, 10=0.3, 100=0.1172, 1000=0.04906, 2500=0.04498 (USD); Mount: Surface Mount; Case/Package: 0603; Number of Pins: 2; Case Code (Metric): 1608; Case Code (Imperial): 0603; Contact Plating: Tin; Min Operating Temperature: -55°C; Max Operating Temperature: 155°C; Packaging: Tape and Reel; Tolerance: 0.1%; Package Quantity: 1; Composition: Thin Film; Termination: SMD/SMT; Number of Terminations: 2; Military Standard: Not; Max Power Dissipation: 100mW; Voltage Rating (DC): 75V; Length: 1.6mm; Height: 0.45mm; Width: 0.8mm; Depth: 0.8mm; Radiation Hardening: No; REACH SVHC: No SVHC; Lead Free: Lead Free; ComponentLink1URL: https://datasheet.ciiva.com/17212/aoa0000ce26-17212717.pdf; ComponentLink1Description: https://datasheet.ciiva.com/17212/aoa0000ce26-17212717.pdf; ComponentLink2URL: https://datasheet.ciiva.com/48425/era-eng-tds-48425482.pdf; ComponentLink2Description: https://datasheet.ciiva.com/48425/era-eng-tds-48425482.pdf; ComponentLink3URL: https://datasheet.ciiva.com/9117/aoa0000ce26-9117737.pdf; ComponentLink3Description: https://datasheet.ciiva.com/9117/aoa0000ce26-9117737.pdf; ComponentLink4URL: https://datasheet.ciiva.com/7891/485442-7891151.pdf; ComponentLink4Description: https://datasheet.ciiva.com/7891/485442-7891151.pdf; ComponentLink5URL: https://datasheet.ciiva.com/5875/485442-5875461.pdf; ComponentLink5Description: https://datasheet.ciiva.com/5875/485442-5875461.pdf; ComponentLink6URL: https://datasheet.ciiva.com/30050/54aoa0000ce26-30050831.pdf; ComponentLink6Description: https://datasheet.ciiva.com/30050/54aoa0000ce26-30050831.pdf; ComponentLink7URL: https://datasheet.ciiva.com/46441/485442-46441370.pdf; ComponentLink7Description: https://datasheet.ciiva.com/46441/485442-46441370.pdf; ComponentLink8URL: https://datasheet.ciiva.com/46441/485442-46441371.pdf; ComponentLink8Description: https://datasheet.ciiva.com/46441/485442-46441371.pdf; ComponentLink9URL: https://datasheet.ciiva.com/9195/aoa0000ce26-9195174.pdf; ComponentLink9Description: https://datasheet.ciiva.com/9195/aoa0000ce26-9195174.pdf; ComponentLink10URL: https://datasheet.ciiva.com/48530/era-eng-tds-48530456.pdf; ComponentLink10Description: https://datasheet.ciiva.com/48530/era-eng-tds-48530456.pdf; ComponentLink11URL: https://datasheet.ciiva.com/24069/aoa0000ce26-197354-24069095.pdf; ComponentLink11Description: https://datasheet.ciiva.com/24069/aoa0000ce26-197354-24069095.pdf; ComponentLink12URL: https://datasheet.ciiva.com/29183/451173-da-01-en-widerstand-0603-era-29183796.pdf; ComponentLink12Description: https://datasheet.ciiva.com/29183/451173-da-01-en-widerstand-0603-era-29183796.pdf
footprint RESC0603 (Chip Resistor 0603, 2-Leads, Body 1.60x0.82mm, IPC High Density)
pins: 1, 2

## ERA-3AEB623V
designator R?, comment 62K
Res Thin Film 0603 62K Ohm 0.1% 0.1W(1/10W) ±25ppm/C Molded SMD Automotive Punched T/R; Manufacturer: Panasonic ECG; Manufacturer Part Number: ERA-3AEB623V; Power Rating: 100mW; Voltage Rating: 75V; Resistance: 62KR; Temperature Coefficient: 25ppm/°C; Supplier 1: Digi-Key; Stock 1: 23662; Pricing 1: 1=0.35, 10=0.3, 100=0.1172, 1000=0.0491, 2500=0.045 (USD); Mount: Surface Mount; Case/Package: 0603; Number of Pins: 2; Case Code (Metric): 1608; Case Code (Imperial): 0603; Contact Plating: Tin; Min Operating Temperature: -55°C; Max Operating Temperature: 155°C; Tolerance: 0.1%; Packaging: Cut Tape; Package Quantity: 5000; Composition: Thin Film; Number of Terminations: 2; Termination: SMD/SMT; Military Standard: Not; Max Power Dissipation: 100mW; Voltage Rating (DC): 75V; Length: 1.6mm; Height: 0.45mm; Width: 0.8mm; Depth: 0.8mm; Radiation Hardening: No; REACH SVHC: No SVHC; Lead Free: Lead Free; ComponentLink1URL: https://datasheet.ciiva.com/5875/485442-5875463.pdf; ComponentLink1Description: https://datasheet.ciiva.com/5875/485442-5875463.pdf; ComponentLink2URL: https://datasheet.ciiva.com/5875/485442-5875464.pdf; ComponentLink2Description: https://datasheet.ciiva.com/5875/485442-5875464.pdf; ComponentLink3URL: https://datasheet.ciiva.com/9188/aoa0000ce26-9188376.pdf; ComponentLink3Description: https://datasheet.ciiva.com/9188/aoa0000ce26-9188376.pdf; ComponentLink4URL: https://datasheet.ciiva.com/16777/70068849-16777560.pdf; ComponentLink4Description: https://datasheet.ciiva.com/16777/70068849-16777560.pdf; ComponentLink5URL: https://datasheet.ciiva.com/46400/485442-46400488.pdf; ComponentLink5Description: https://datasheet.ciiva.com/46400/485442-46400488.pdf; ComponentLink6URL: https://datasheet.ciiva.com/46400/485442-46400489.pdf; ComponentLink6Description: https://datasheet.ciiva.com/46400/485442-46400489.pdf; ComponentLink7URL: https://datasheet.ciiva.com/22740/485442-22740938.pdf; ComponentLink7Description: https://datasheet.ciiva.com/22740/485442-22740938.pdf; ComponentLink8URL: https://datasheet.ciiva.com/48425/era-eng-tds-48425483.pdf; ComponentLink8Description: https://datasheet.ciiva.com/48425/era-eng-tds-48425483.pdf; ComponentLink9URL: https://datasheet.ciiva.com/9117/aoa0000ce26-9117740.pdf; ComponentLink9Description: https://datasheet.ciiva.com/9117/aoa0000ce26-9117740.pdf; ComponentLink10URL: https://datasheet.ciiva.com/16763/70068849-16763710.pdf; ComponentLink10Description: https://datasheet.ciiva.com/16763/70068849-16763710.pdf; ComponentLink11URL: https://datasheet.ciiva.com/29183/451575-da-01-en-widerstand-0603-era-29183855.pdf; ComponentLink11Description: https://datasheet.ciiva.com/29183/451575-da-01-en-widerstand-0603-era-29183855.pdf; Supplier Part Number 1: P62KDBDKR-ND
footprint RESC0603 (Chip Resistor 0603, 2-Leads, Body 1.60x0.82mm, IPC High Density)
pins: 1, 2

## ERA-3AEB682V
designator R?, comment 6.8K
RES SMD 6.8K OHM 0.1% 1/10W 0603; Manufacturer: Panasonic Electronic Components; Manufacturer Part Number: ERA-3AEB682V; Power (Watts): 0.1W, 1/10W; Temperature Coefficient: ±25ppm/°C; Supplier 1: Digi-Key; RoHS: RoHS Compliant; Category: Resistors; Stock 1: 33984; Pricing 1: 1=0.55, 10=0.47, 100=0.1835, 1000=0.07679, 2500=0.0704 (CAD); Packaging: Cut Tape (CT); Part Status: Active; Resistance (Ohms): 6.8k; Tolerance: ±0.1%; Composition: Thin Film; Features: Automotive AEC-Q200; Operating Temperature: -55°C ~ 155°C; Package / Case: 0603 (1608 Metric); Supplier Device Package: 0603; Size / Dimension: 0.063" L x 0.031" W (1.60mm x 0.80mm); Height - Seated (Max): 0.022" (0.55mm); Failure Rate: -; ComponentLink1URL: https://industrial.panasonic.com/cdbs/www-data/pdf/RDM0000/AOA0000C237.pdf; ComponentLink1Description: https://industrial.panasonic.com/cdbs/www-data/pdf/RDM0000/AOA0000C237.pdf; Supplier Part Number 1: P6.8KDBCT-ND
footprint RESC0603 (Chip Resistor 0603, 2-Leads, Body 1.60x0.82mm, IPC High Density)
pins: 1, 2

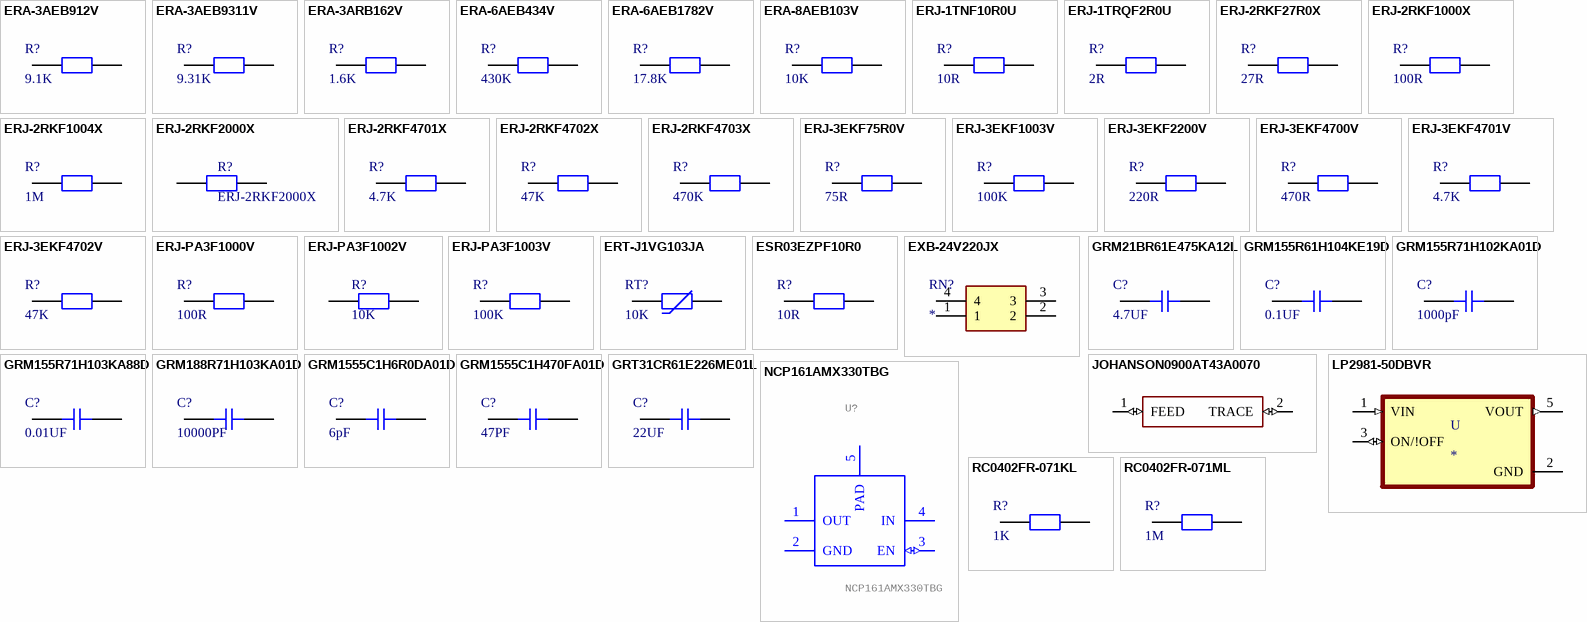
[diagram p2: symbols ERA-3AEB912V to RC0402FR-071ML]

## ERA-3AEB912V
designator R?, comment 9.1K
RES SMD 9.1K OHM 0.1% 1/10W 0603; Manufacturer: Panasonic Electronic Components; Manufacturer Part Number: ERA-3AEB912V; Power (Watts): 0.1W, 1/10W; Temperature Coefficient: ±25ppm/°C; Supplier 1: Digi-Key; RoHS: RoHS Compliant; Category: Resistors; Stock 1: 110046; Pricing 1: 1=0.54, 10=0.464, 100=0.1813, 1000=0.07591, 2500=0.06959 (CAD); Packaging: Cut Tape (CT); Part Status: Active; Resistance (Ohms): 9.1k; Tolerance: ±0.1%; Composition: Thin Film; Features: Automotive AEC-Q200; Operating Temperature: -55°C ~ 155°C; Package / Case: 0603 (1608 Metric); Supplier Device Package: 0603; Size / Dimension: 0.063" L x 0.031" W (1.60mm x 0.80mm); Height - Seated (Max): 0.022" (0.55mm); Failure Rate: -; ComponentLink1URL: https://industrial.panasonic.com/cdbs/www-data/pdf/RDM0000/AOA0000C237.pdf; ComponentLink1Description: https://industrial.panasonic.com/cdbs/www-data/pdf/RDM0000/AOA0000C237.pdf; Supplier Part Number 1: P9.1KDBCT-ND
footprint RESC0603 (Chip Resistor 0603, 2-Leads, Body 1.60x0.82mm, IPC High Density)
pins: 1, 2

## ERA-3AEB9311V
designator R?, comment 9.31K
RES SMD 9.31KOHM 0.1% 1/10W 0603; Manufacturer: Panasonic Electronic Components; Manufacturer Part Number: ERA-3AEB9311V; Power (Watts): 0.1W, 1/10W; Temperature Coefficient: ±25ppm/°C; Supplier 1: Digi-Key; RoHS: RoHS Compliant; Category: Resistors; Stock 1: 14046; Pricing 1: 1=0.54, 10=0.464, 100=0.1813, 1000=0.07591, 2500=0.06959 (CAD); Packaging: Cut Tape (CT); Part Status: Active; Resistance (Ohms): 9.31k; Tolerance: ±0.1%; Composition: Thin Film; Features: Automotive AEC-Q200; Operating Temperature: -55°C ~ 155°C; Package / Case: 0603 (1608 Metric); Supplier Device Package: 0603; Size / Dimension: 0.063" L x 0.031" W (1.60mm x 0.80mm); Height - Seated (Max): 0.022" (0.55mm); Failure Rate: -; ComponentLink1URL: https://industrial.panasonic.com/cdbs/www-data/pdf/RDM0000/AOA0000C237.pdf; ComponentLink1Description: https://industrial.panasonic.com/cdbs/www-data/pdf/RDM0000/AOA0000C237.pdf; Supplier Part Number 1: P9.31KDBCT-ND
footprint RESC0603 (Chip Resistor 0603, 2-Leads, Body 1.60x0.82mm, IPC High Density)
pins: 1, 2

## ERA-3ARB162V
designator R?, comment 1.6K
RES SMD 1.6K OHM 0.1% 1/10W 0603; Manufacturer: Panasonic Electronic Components; Manufacturer Part Number: ERA-3ARB162V; Power (Watts): 0.1W, 1/10W; Temperature Coefficient: ±10ppm/°C; Supplier 1: Digi-Key; RoHS: RoHS Compliant; Category: Resistors; Stock 1: 3292; Pricing 1: 1=0.94, 10=0.781, 100=0.5241, 1000=0.30799 (CAD); Packaging: Cut Tape (CT); Part Status: Active; Resistance (Ohms): 1.6k; Tolerance: ±0.1%; Composition: Thin Film; Features: Automotive AEC-Q200; Operating Temperature: -55°C ~ 155°C; Package / Case: 0603 (1608 Metric); Supplier Device Package: 0603; Size / Dimension: 0.063" L x 0.031" W (1.60mm x 0.80mm); Height - Seated (Max): 0.022" (0.55mm); Failure Rate: -; ComponentLink1URL: https://industrial.panasonic.com/cdbs/www-data/pdf/RDM0000/AOA0000C237.pdf; ComponentLink1Description: https://industrial.panasonic.com/cdbs/www-data/pdf/RDM0000/AOA0000C237.pdf; Supplier Part Number 1: P1.6KBDCT-ND
footprint RESC0603 (Chip Resistor 0603, 2-Leads, Body 1.60x0.82mm, IPC High Density)
pins: 1, 2

## ERA-6AEB434V
designator R?, comment 430K
RES SMD 430K OHM 0.1% 1/8W 0805; Manufacturer: Panasonic Electronic Components; Manufacturer Part Number: ERA-6AEB434V; Power (Watts): 0.125W, 1/8W; Temperature Coefficient: ±25ppm/°C; Supplier 1: Digi-Key; RoHS: RoHS Compliant; Category: Resistors; Stock 1: 10223; Pricing 1: 1=0.56, 10=0.467, 100=0.1829, 1000=0.07656, 2500=0.07018 (CAD); Packaging: Cut Tape (CT); Part Status: Active; Resistance (Ohms): 430k; Tolerance: ±0.1%; Composition: Thin Film; Features: Automotive AEC-Q200; Operating Temperature: -55°C ~ 155°C; Package / Case: 0805 (2012 Metric); Supplier Device Package: 0805; Size / Dimension: 0.079" L x 0.049" W (2.00mm x 1.25mm); Height - Seated (Max): 0.024" (0.60mm); Failure Rate: -; ComponentLink1URL: https://industrial.panasonic.com/cdbs/www-data/pdf/RDM0000/AOA0000C237.pdf; ComponentLink1Description: https://industrial.panasonic.com/cdbs/www-data/pdf/RDM0000/AOA0000C237.pdf; Supplier Part Number 1: P430KDACT-ND
footprint RESC0805 (Chip Resistor 0805, 2-Leads, Body 2.00x1.25mm, IPC High Density)
pins: 1, 2

## ERA-6AEB1782V
designator R?, comment 17.8K
RES SMD 17.8K OHM 0.1% 1/8W 0805; Manufacturer: Panasonic Electronic Components; Manufacturer Part Number: ERA-6AEB1782V; Power (Watts): 0.125W, 1/8W; Temperature Coefficient: ±25ppm/°C; Supplier 1: Digi-Key; RoHS: RoHS Compliant; Category: Resistors; Stock 1: 11507; Pricing 1: 1=0.56, 10=0.467, 100=0.1829, 1000=0.07656, 2500=0.07018 (CAD); Packaging: Cut Tape (CT); Part Status: Active; Resistance (Ohms): 17.8k; Tolerance: ±0.1%; Composition: Thin Film; Features: Automotive AEC-Q200; Operating Temperature: -55°C ~ 155°C; Package / Case: 0805 (2012 Metric); Supplier Device Package: 0805; Size / Dimension: 0.079" L x 0.049" W (2.00mm x 1.25mm); Height - Seated (Max): 0.024" (0.60mm); Failure Rate: -; ComponentLink1URL: https://industrial.panasonic.com/cdbs/www-data/pdf/RDM0000/AOA0000C237.pdf; ComponentLink1Description: https://industrial.panasonic.com/cdbs/www-data/pdf/RDM0000/AOA0000C237.pdf; Supplier Part Number 1: P17.8KDACT-ND
footprint RESC0603 (Chip Resistor 0603, 2-Leads, Body 1.60x0.82mm, IPC High Density)
pins: 1, 2

## ERA-8AEB103V
designator R?, comment 10K
RES SMD 10K OHM 0.1% 1/4W 1206; Manufacturer: Panasonic Electronic Components; Manufacturer Part Number: ERA-8AEB103V; Power (Watts): 0.25W, 1/4W; Temperature Coefficient: ±25ppm/°C; Supplier 1: Digi-Key; RoHS: RoHS Compliant; Category: Resistors; Stock 1: 60173; Pricing 1: 1=0.99, 10=0.711, 100=0.3699, 1000=0.19922, 2500=0.1965 (CAD); Packaging: Cut Tape (CT); Part Status: Active; Resistance (Ohms): 10k; Tolerance: ±0.1%; Composition: Thin Film; Features: Automotive AEC-Q200; Operating Temperature: -55°C ~ 155°C; Package / Case: 1206 (3216 Metric); Supplier Device Package: 1206; Size / Dimension: 0.126" L x 0.063" W (3.20mm x 1.60mm); Height - Seated (Max): 0.028" (0.70mm); Failure Rate: -; ComponentLink1URL: https://industrial.panasonic.com/cdbs/www-data/pdf/RDM0000/AOA0000C237.pdf; ComponentLink1Description: https://industrial.panasonic.com/cdbs/www-data/pdf/RDM0000/AOA0000C237.pdf; Supplier Part Number 1: P10KBCCT-ND
footprint RESC0603 (Chip Resistor 0603, 2-Leads, Body 1.60x0.82mm, IPC High Density)
pins: 1, 2

## ERJ-1TNF10R0U
designator R?, comment 10R
RES SMD 10 OHM 1% 1W 2512; Manufacturer: Panasonic Electronic Components; Manufacturer Part Number: ERJ-1TNF10R0U; Resistance (Ohms): 10; Temperature Coefficient: ±100ppm/°C; Supplier 1: Digi-Key; RoHS: RoHS Compliant; Category: Resistors; Stock 1: 36479; Pricing 1: 1=0.92, 10=0.653, 100=0.3394, 1000=0.18279 (CAD); Packaging: Cut Tape (CT); Part Status: Active; Tolerance: ±1%; Power (Watts): 1W; Composition: Thick Film; Features: Automotive AEC-Q200; Operating Temperature: -55°C ~ 155°C; Package / Case: 2512 (6432 Metric); Supplier Device Package: 2512; Size / Dimension: 0.252" L x 0.126" W (6.40mm x 3.20mm); Height - Seated (Max): 0.028" (0.70mm); Failure Rate: -; ComponentLink1URL: https://industrial.panasonic.com/cdbs/www-data/pdf/RDA0000/AOA0000C298.pdf; ComponentLink1Description: https://industrial.panasonic.com/cdbs/www-data/pdf/RDA0000/AOA0000C298.pdf; Supplier Part Number 1: PT10.0AFCT-ND
footprint RESC2512 (Chip Resistor 2512, 2-Leads, Body 6.30x3.20mm, IPC High Density)
pins: 1, 2

## ERJ-1TRQF2R0U
designator R?, comment 2R
RES SMD 2 OHM 1% 1W 2512; Manufacturer: Panasonic Electronic Components; Manufacturer Part Number: ERJ-1TRQF2R0U; Resistance (Ohms): 2; Temperature Coefficient: ±100ppm/°C; Supplier 1: Digi-Key; RoHS: RoHS Compliant; Category: Resistors; Stock 1: 11446; Pricing 1: 1=0.93, 10=0.767, 25=0.658, 50=0.592, 100=0.5151, 250=0.46032, 500=0.37266, 1000=0.30142 (CAD); Packaging: Cut Tape (CT); Part Status: Active; Tolerance: ±1%; Power (Watts): 1W; Composition: Thick Film; Features: Automotive AEC-Q200, Current Sense; Operating Temperature: -55°C ~ 125°C; Package / Case: 2512 (6432 Metric); Supplier Device Package: 2512; Size / Dimension: 0.252" L x 0.126" W (6.40mm x 3.20mm); Height - Seated (Max): 0.028" (0.70mm); Failure Rate: -; ComponentLink1URL: https://industrial.panasonic.com/cdbs/www-data/pdf/RDN0000/AOA0000C295.pdf; ComponentLink1Description: https://industrial.panasonic.com/cdbs/www-data/pdf/RDN0000/AOA0000C295.pdf; Supplier Part Number 1: PT2.0YCT-ND
footprint RESC2512 (Chip Resistor 2512, 2-Leads, Body 6.30x3.20mm, IPC High Density)
pins: 1, 2

## ERJ-2RKF27R0X
designator R?, comment 27R
RES SMD 27 OHM 1% 1/10W 0402; Manufacturer: Panasonic Electronic Components; Manufacturer Part Number: ERJ-2RKF27R0X; Resistance (Ohms): 27; Power (Watts): 0.1W, 1/10W; Temperature Coefficient: ±100ppm/°C; Supplier 1: Digi-Key; RoHS: RoHS Compliant; Category: Resistors; Stock 1: 542002; Pricing 1: 1=0.15, 10=0.04, 100=0.0162, 1000=0.00732, 2500=0.00635, 5000=0.00525 (CAD); Packaging: Cut Tape (CT); Part Status: Active; Tolerance: ±1%; Composition: Thick Film; Features: Automotive AEC-Q200; Operating Temperature: -55°C ~ 155°C; Package / Case: 0402 (1005 Metric); Supplier Device Package: 0402; Size / Dimension: 0.039" L x 0.020" W (1.00mm x 0.50mm); Height - Seated (Max): 0.016" (0.40mm); Failure Rate: -; ComponentLink1URL: https://industrial.panasonic.com/cdbs/www-data/pdf/RDA0000/AOA0000C298.pdf; ComponentLink1Description: https://industrial.panasonic.com/cdbs/www-data/pdf/RDA0000/AOA0000C298.pdf; Supplier Part Number 1: P27.0LCT-ND
footprint RESC0402 (Chip Resistor 0402, 2-Leads, Body 1.05x0.54mm, IPC High Density)
pins: 1, 2

## ERJ-2RKF1000X
designator R?, comment 100R
RES SMD 100 OHM 1% 1/10W 0402; Manufacturer: Panasonic Electronic Components; Manufacturer Part Number: ERJ-2RKF1000X; Power (Watts): 0.1W, 1/10W; Temperature Coefficient: ±100ppm/°C; Supplier 1: Digi-Key; RoHS: RoHS Compliant; Category: Resistors; Stock 1: 596832; Pricing 1: 1=0.14, 10=0.04, 100=0.0163, 1000=0.00733, 2500=0.00636, 5000=0.00525 (CAD); Packaging: Cut Tape (CT); Part Status: Active; Tolerance: ±1%; Composition: Thick Film; Features: Automotive AEC-Q200; Operating Temperature: -55°C ~ 155°C; Package / Case: 0402 (1005 Metric); Supplier Device Package: 0402; Size / Dimension: 0.039" L x 0.020" W (1.00mm x 0.50mm); Height - Seated (Max): 0.016" (0.40mm); Failure Rate: -; ComponentLink1URL: https://industrial.panasonic.com/cdbs/www-data/pdf/RDA0000/AOA0000C304.pdf; ComponentLink1Description: https://industrial.panasonic.com/cdbs/www-data/pdf/RDA0000/AOA0000C304.pdf; Supplier Part Number 1: P100LCT-ND
footprint RESC0402 (Chip Resistor 0402, 2-Leads, Body 1.05x0.54mm, IPC High Density)
pins: 1, 2

## ERJ-2RKF1004X
designator R?, comment 1M
RES SMD 1M OHM 1% 1/10W 0402; Manufacturer: Panasonic Electronic Components; Manufacturer Part Number: ERJ-2RKF1004X; Power (Watts): 0.1W, 1/10W; Temperature Coefficient: ±100ppm/°C; Supplier 1: Digi-Key; RoHS: RoHS Compliant; Category: Resistors; Stock 1: 608027; Pricing 1: 1=0.15, 10=0.04, 25=0.0288, 50=0.0218, 100=0.0161, 250=0.01232, 500=0.00984, 1000=0.00724, 5000=0.00519 (CAD); Packaging: Cut Tape (CT); Part Status: Active; Resistance (Ohms): 1M; Tolerance: ±1%; Composition: Thick Film; Features: Automotive AEC-Q200; Operating Temperature: -55°C ~ 155°C; Package / Case: 0402 (1005 Metric); Supplier Device Package: 0402; Size / Dimension: 0.039" L x 0.020" W (1.00mm x 0.50mm); Height - Seated (Max): 0.016" (0.40mm); Failure Rate: -; ComponentLink1URL: https://industrial.panasonic.com/cdbs/www-data/pdf/RDA0000/AOA0000C283.pdf; ComponentLink1Description: https://industrial.panasonic.com/cdbs/www-data/pdf/RDA0000/AOA0000C283.pdf; Supplier Part Number 1: P1.00MLCT-ND
footprint RESC0402 (Chip Resistor 0402, 2-Leads, Body 1.05x0.54mm, IPC High Density)
pins: 1, 2

## ERJ-2RKF2000X
designator R?
RES SMD 200 OHM 1% 1/10W 0402; ComponentLink1Description: https://www.digikey.ca/product-detail/en/panasonic-electronic-components/ERJ-2RKF2000X/P200LCT-ND/194253; ComponentLink1URL: https://www.digikey.ca/product-detail/en/panasonic-electronic-components/ERJ-2RKF2000X/P200LCT-ND/194253; Manufacturer Part Number 1: ERJ-2RKF2000X
footprint RESC0402 (Chip Resistor 0402, 2-Leads, Body 1.05x0.54mm, IPC High Density)
pins: 1, 2

## ERJ-2RKF4701X
designator R?, comment 4.7K
RES SMD 4.7K OHM 1% 1/10W 0402; Manufacturer: Panasonic Electronic Components; Manufacturer Part Number: ERJ-2RKF4701X; Power (Watts): 0.1W, 1/10W; Temperature Coefficient: ±100ppm/°C; Supplier 1: Digi-Key; RoHS: RoHS Compliant; Category: Resistors; Stock 1: 458978; Pricing 1: 1=0.14, 10=0.04, 100=0.0163, 1000=0.00733, 2500=0.00636, 5000=0.00525 (CAD); Packaging: Cut Tape (CT); Part Status: Active; Tolerance: ±1%; Composition: Thick Film; Features: Automotive AEC-Q200; Operating Temperature: -55°C ~ 155°C; Package / Case: 0402 (1005 Metric); Supplier Device Package: 0402; Size / Dimension: 0.039" L x 0.020" W (1.00mm x 0.50mm); Height - Seated (Max): 0.016" (0.40mm); Failure Rate: -; ComponentLink1URL: https://industrial.panasonic.com/cdbs/www-data/pdf/RDA0000/AOA0000C304.pdf; ComponentLink1Description: https://industrial.panasonic.com/cdbs/www-data/pdf/RDA0000/AOA0000C304.pdf; Supplier Part Number 1: P4.70KLCT-ND
footprint RESC0402 (Chip Resistor 0402, 2-Leads, Body 1.05x0.54mm, IPC High Density)
pins: 1, 2

## ERJ-2RKF4702X
designator R?, comment 47K
RES SMD 47K OHM 1% 1/10W 0402; Manufacturer: Panasonic Electronic Components; Manufacturer Part Number: ERJ-2RKF4702X; Power (Watts): 0.1W, 1/10W; Temperature Coefficient: ±100ppm/°C; Supplier 1: Digi-Key; RoHS: RoHS Compliant; Category: Resistors; Stock 1: 523688; Pricing 1: 1=0.14, 10=0.04, 100=0.0163, 1000=0.00733, 2500=0.00636, 5000=0.00525 (CAD); Packaging: Cut Tape (CT); Part Status: Active; Tolerance: ±1%; Composition: Thick Film; Features: Automotive AEC-Q200; Operating Temperature: -55°C ~ 155°C; Package / Case: 0402 (1005 Metric); Supplier Device Package: 0402; Size / Dimension: 0.039" L x 0.020" W (1.00mm x 0.50mm); Height - Seated (Max): 0.016" (0.40mm); Failure Rate: -; ComponentLink1URL: https://industrial.panasonic.com/cdbs/www-data/pdf/RDA0000/AOA0000C304.pdf; ComponentLink1Description: https://industrial.panasonic.com/cdbs/www-data/pdf/RDA0000/AOA0000C304.pdf; Supplier Part Number 1: P47.0KLCT-ND
footprint RESC0402 (Chip Resistor 0402, 2-Leads, Body 1.05x0.54mm, IPC High Density)
pins: 1, 2